# EAGLE library part ATA6563-GAQW0 (library TImingBoardPartLibrary)
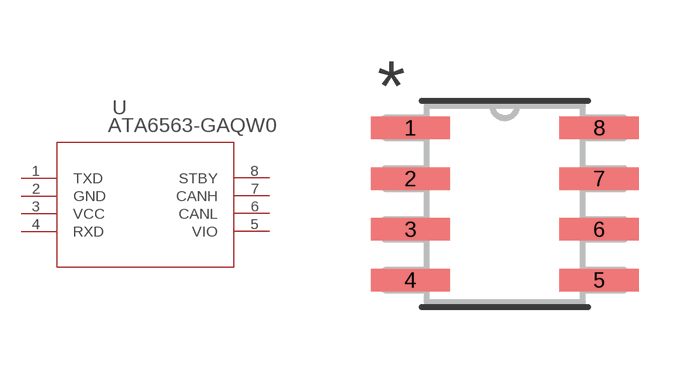
[diagram p5: symbol with the pads of ATA6563-GAQW0; footprint ATA6563-GAQW0]

Designator prefix -

## ATA6563-GAQW0 (LCSC: C5127614)  [ATA6563-GAQW0]
1  TXD  in
2  GND  pas
3  VCC  pwr
4  RXD  out
5  VIO  pwr
6  CANL  pas
7  CANH  pas
8  STBY  in

## Footprint ATA6563-GAQW0 (pad centres in mm)
smd 1.981 x 0.559: 1 -2.362,1.905; 2 -2.362,0.635; 3 -2.362,-0.635; 4 -2.362,-1.905; 5 2.362,-1.905; 6 2.362,-0.635; 7 2.362,0.635; 8 2.362,1.905